# Altium schematic symbol library MC74AC74.Schlib: 1 symbol
Pins are listed as number, name and electrical type; pins without a type are passive.

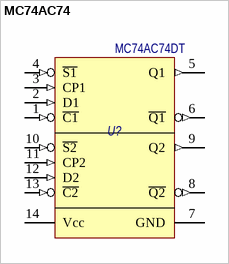
[diagram p0: symbol MC74AC74]

## MC74AC74
designator U?, comment MC74AC74DT
Dual D-Type Positive Edge-Triggered Flip-Flop; Потребление, Вт: 0,001; Назначение: Dual D-Type Positive Edge-Triggered Flip-Flop; Наименование: MC74AC74DT
footprint TSSOP-14 (TSSOP 14-pin 5.1x4.5mm)
pins: 1 ~{C1} (in), 2 D1 (in), 3 CP1 (in), 4 ~{S1} (in), 5 Q1 (out), 6 ~{Q1} (out), 7 GND (power), 8 ~{Q2} (out), 9 Q2 (out), 10 ~{S2} (in), 11 CP2 (in), 12 D2 (in), 13 ~{C2} (in), 14 Vcc (power)